# Altium schematic symbol library LP295x.SchLib: 1 symbol
Pins are listed as number, name and electrical type; pins without a type are passive.

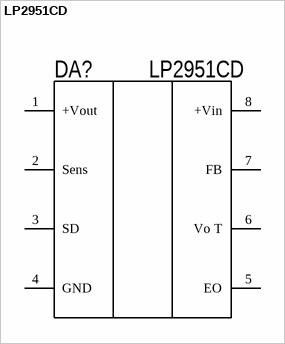
[diagram p0: symbol LP2951CD]

## LP2951CD
designator DA?, comment Model: LP2951CD  (hidden comment: LDO Voltage Regulator 5V, SOIC-8)
Low Dropout Voltage Regulator 5V or Adjustable; Manufacture: OnSemiconduction; ComponentLink1Description: LP295x; ComponentLink1URL: https://www.onsemi.com/pub/Collateral/LP2950-D.PDF; Case: SOIC-8 Narrow
footprint SO-8 Narrow
pins: 1 +Vout "Positive Output Voltage", 2 Sens "Sense Output Voltage", 3 SD "Shutdown Input (Logic “1” to Regulator “Off”)", 4 GND "Ground", 5 EO "Error Output (Open Collector)", 6 Vo T "Vout Tap", 7 FB "FeedBack Input", 8 +Vin "Positive Input Voltage"